# EAGLE library part CC2592 (library ti)
CC2592 2.4-GHz Range Extender
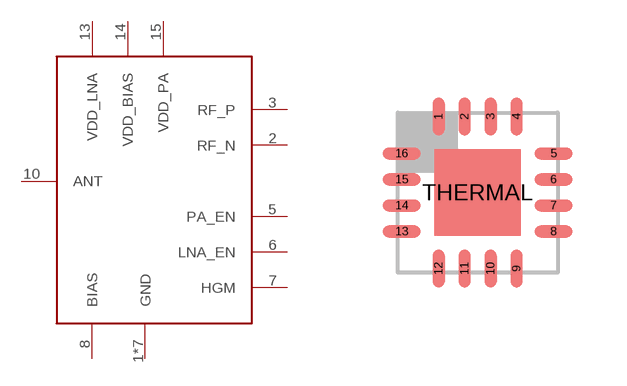
[diagram p4: symbol with the pads of RGV_S-PQFN-N16; footprint RGV_S-PQFN-N16]

Designator prefix -

## CC2592  [RGV_S-PQFN-N16]
1  GND
2  RF_N
3  RF_P
4  GND
5  PA_EN
6  LNA_EN
7  HGM
8  BIAS
9  GND
10  ANT
11  GND
12  GND
13  VDD_LNA
14  VDD_BIAS
15  VDD_PA
16  GND
THERMAL  GND

## Footprint RGV_S-PQFN-N16 (pad centres in mm)
smd 0.3 x 0.95: 1 -0.975,1.9; 2 -0.325,1.9; 3 0.325,1.9; 4 0.975,1.9; 9 0.975,-1.9; 10 0.325,-1.9; 11 -0.325,-1.9; 12 -0.975,-1.9
smd 0.95 x 0.3: 5 1.9,0.975; 6 1.9,0.325; 7 1.9,-0.325; 8 1.9,-0.975; 13 -1.9,-0.975; 14 -1.9,-0.325; 15 -1.9,0.325; 16 -1.9,0.975
smd 2.16 x 2.16: THERMAL 0,0